# Altium schematic symbol library WR-TBL_Spring Clamp.SchLib: 367 symbols (part 4 of 6)
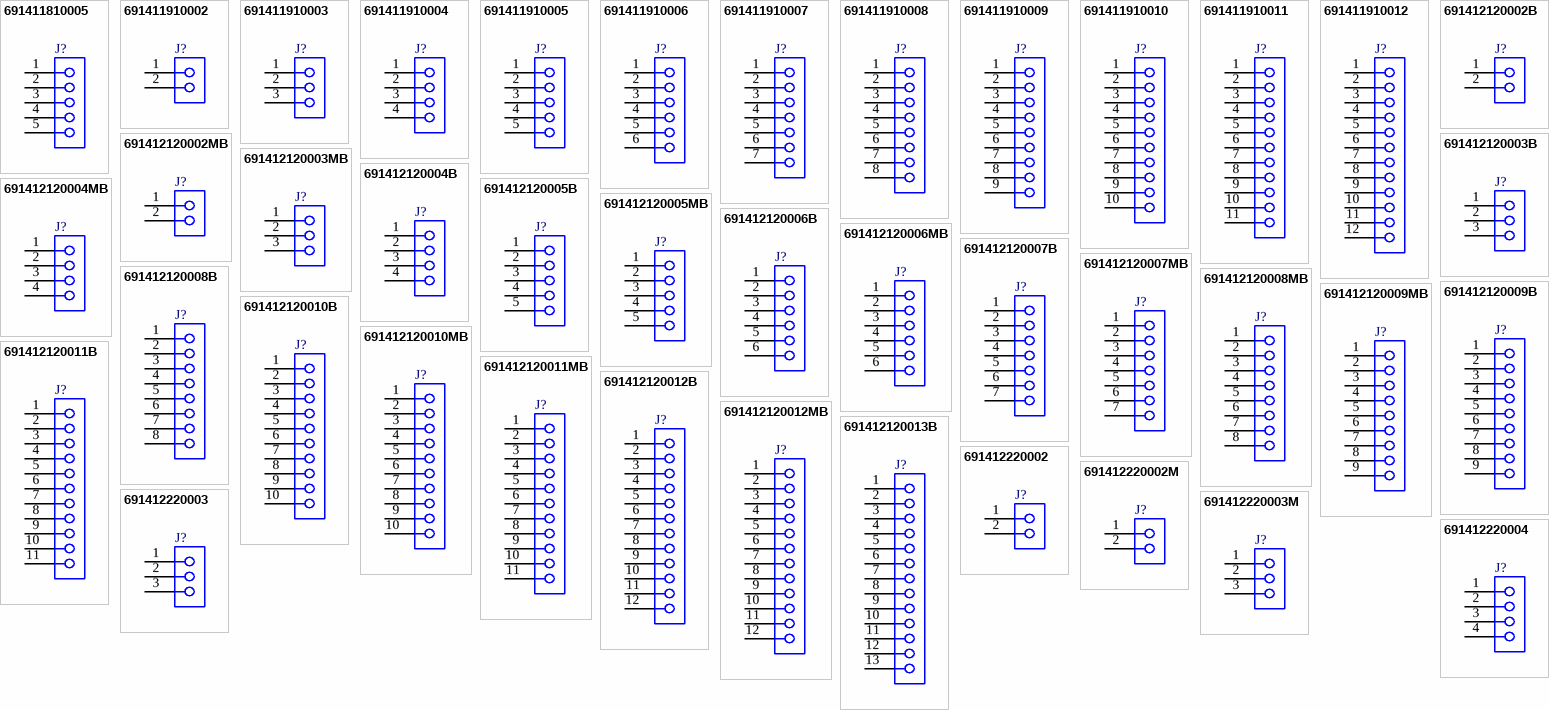
[diagram p12: symbols 691411810005 to 691412220004]

## 691412120008B
designator J?  (value not drawn)
WR-TBL Series 412B 45° Entry, THT, pitch 3.5mm, 08p; Manufacturer: Wurth Elektronik; Modularity: No; Rated Current: 6A; Wire Section: 14 to 20 (AWG) 2.08 to 0.518 (mm^2); Working Voltage: 300V (AC); Manufacturer Part Number: 691412120008B; Product Series: WR-TBL; ComponentLink1Description: Website Link; ComponentLink1URL: https://www.we-online.com; ComponentLink2Description: Datasheet Link; ComponentLink2URL: https://www.we-online.com/components/products/datasheet/691412120008B; Mount: Through Hole; Operating Temperature Min: -40degC; Operating Temperature Max: 105degC; Packaging: Box; Application: Screwless; Number of Pins: 8; Number of Rows: 1; Orientation: 45deg; Lead Pitch: 3.5mm
footprint 691412120008B
pins: 1, 2, 3, 4, 5, 6, 7, 8

## 691412120008MB
designator J?  (value not drawn)
WR-TBL Series 412MB 45° Entry, THT, pitch 3.5mm, 08p; Manufacturer: Wurth Elektronik; Modularity: No; Rated Current: 6A; Wire Section: 14 to 20 (AWG) 2.08 to 0.518 (mm^2); Working Voltage: 300V (AC); Manufacturer Part Number: 691412120008MB; Product Series: WR-TBL; ComponentLink1Description: Website Link; ComponentLink1URL: https://www.we-online.com; ComponentLink2Description: Datasheet Link; ComponentLink2URL: https://www.we-online.com/components/products/datasheet/691412120008MB; Mount: Through Hole; Operating Temperature Min: -40degC; Operating Temperature Max: 105degC; Packaging: Box; Application: Screwless; Number of Pins: 8; Number of Rows: 1; Orientation: 45deg; Lead Pitch: 3.5mm
footprint 691412120008MB
pins: 1, 2, 3, 4, 5, 6, 7, 8

## 691412120009B
designator J?  (value not drawn)
WR-TBL Series 412B 45° Entry, THT, pitch 3.5mm, 09p; Manufacturer: Wurth Elektronik; Modularity: No; Rated Current: 6A; Wire Section: 14 to 20 (AWG) 2.08 to 0.518 (mm^2); Working Voltage: 300V (AC); Manufacturer Part Number: 691412120009B; Product Series: WR-TBL; ComponentLink1Description: Website Link; ComponentLink1URL: https://www.we-online.com; ComponentLink2Description: Datasheet Link; ComponentLink2URL: https://www.we-online.com/components/products/datasheet/691412120009B; Mount: Through Hole; Operating Temperature Min: -40degC; Operating Temperature Max: 105degC; Packaging: Box; Application: Screwless; Number of Pins: 9; Number of Rows: 1; Orientation: 45deg; Lead Pitch: 3.5mm
footprint 691412120009B
pins: 1, 2, 3, 4, 5, 6, 7, 8, 9

## 691412120009MB
designator J?  (value not drawn)
WR-TBL Series 412MB 45° Entry, THT, pitch 3.5mm, 09p; Manufacturer: Wurth Elektronik; Modularity: No; Rated Current: 6A; Wire Section: 14 to 20 (AWG) 2.08 to 0.518 (mm^2); Working Voltage: 300V (AC); Manufacturer Part Number: 691412120009MB; Product Series: WR-TBL; ComponentLink1Description: Website Link; ComponentLink1URL: https://www.we-online.com; ComponentLink2Description: Datasheet Link; ComponentLink2URL: https://www.we-online.com/components/products/datasheet/691412120009MB; Mount: Through Hole; Operating Temperature Min: -40degC; Operating Temperature Max: 105degC; Packaging: Box; Application: Screwless; Number of Pins: 9; Number of Rows: 1; Orientation: 45deg; Lead Pitch: 3.5mm
footprint 691412120009MB
pins: 1, 2, 3, 4, 5, 6, 7, 8, 9

## 691412120010B
designator J?  (value not drawn)
WR-TBL Series 412B 45° Entry, THT, pitch 3.5mm, 10p; Manufacturer: Wurth Elektronik; Modularity: No; Rated Current: 6A; Wire Section: 14 to 20 (AWG) 2.08 to 0.518 (mm^2); Working Voltage: 300V (AC); Manufacturer Part Number: 691412120010B; Product Series: WR-TBL; ComponentLink1Description: Website Link; ComponentLink1URL: https://www.we-online.com; ComponentLink2Description: Datasheet Link; ComponentLink2URL: https://www.we-online.com/components/products/datasheet/691412120010B; Mount: Through Hole; Operating Temperature Min: -40degC; Operating Temperature Max: 105degC; Packaging: Box; Application: Screwless; Number of Pins: 10; Number of Rows: 1; Orientation: 45deg; Lead Pitch: 3.5mm
footprint 691412120010B
pins: 1, 2, 3, 4, 5, 6, 7, 8, 9, 10

## 691412120010MB
designator J?  (value not drawn)
WR-TBL Series 412MB 45° Entry, THT, pitch 3.5mm, 10p; Manufacturer: Wurth Elektronik; Modularity: No; Rated Current: 6A; Wire Section: 14 to 20 (AWG) 2.08 to 0.518 (mm^2); Working Voltage: 300V (AC); Manufacturer Part Number: 691412120010MB; Product Series: WR-TBL; ComponentLink1Description: Website Link; ComponentLink1URL: https://www.we-online.com; ComponentLink2Description: Datasheet Link; ComponentLink2URL: https://www.we-online.com/components/products/datasheet/691412120010MB; Mount: Through Hole; Operating Temperature Min: -40degC; Operating Temperature Max: 105degC; Packaging: Box; Application: Screwless; Number of Pins: 10; Number of Rows: 1; Orientation: 45deg; Lead Pitch: 3.5mm
footprint 691412120010MB
pins: 1, 2, 3, 4, 5, 6, 7, 8, 9, 10

## 691412120011B
designator J?  (value not drawn)
WR-TBL Series 412B 45° Entry, THT, pitch 3.5mm, 11p; Manufacturer: Wurth Elektronik; Modularity: No; Rated Current: 6A; Wire Section: 14 to 20 (AWG) 2.08 to 0.518 (mm^2); Working Voltage: 300V (AC); Manufacturer Part Number: 691412120011B; Product Series: WR-TBL; ComponentLink1Description: Website Link; ComponentLink1URL: https://www.we-online.com; ComponentLink2Description: Datasheet Link; ComponentLink2URL: https://www.we-online.com/components/products/datasheet/691412120011B; Mount: Through Hole; Operating Temperature Min: -40degC; Operating Temperature Max: 105degC; Packaging: Box; Application: Screwless; Number of Pins: 11; Number of Rows: 1; Orientation: 45deg; Lead Pitch: 3.5mm
footprint 691412120011B
pins: 1, 2, 3, 4, 5, 6, 7, 8, 9, 10, 11

## 691412120011MB
designator J?  (value not drawn)
WR-TBL Series 412MB 45° Entry, THT, pitch 3.5mm, 11p; Manufacturer: Wurth Elektronik; Modularity: No; Rated Current: 6A; Wire Section: 14 to 20 (AWG) 2.08 to 0.518 (mm^2); Working Voltage: 300V (AC); Manufacturer Part Number: 691412120011MB; Product Series: WR-TBL; ComponentLink1Description: Website Link; ComponentLink1URL: https://www.we-online.com; ComponentLink2Description: Datasheet Link; ComponentLink2URL: https://www.we-online.com/components/products/datasheet/691412120011MB; Mount: Through Hole; Operating Temperature Min: -40degC; Operating Temperature Max: 105degC; Packaging: Box; Application: Screwless; Number of Pins: 11; Number of Rows: 1; Orientation: 45deg; Lead Pitch: 3.5mm
footprint 691412120011MB
pins: 1, 2, 3, 4, 5, 6, 7, 8, 9, 10, 11

## 691412120012B
designator J?  (value not drawn)
WR-TBL Series 412B 45° Entry, THT, pitch 3.5mm, 12p; Manufacturer: Wurth Elektronik; Modularity: No; Rated Current: 6A; Wire Section: 14 to 20 (AWG) 2.08 to 0.518 (mm^2); Working Voltage: 300V (AC); Manufacturer Part Number: 691412120012B; Product Series: WR-TBL; ComponentLink1Description: Website Link; ComponentLink1URL: https://www.we-online.com; ComponentLink2Description: Datasheet Link; ComponentLink2URL: https://www.we-online.com/components/products/datasheet/691412120012B; Mount: Through Hole; Operating Temperature Min: -40degC; Operating Temperature Max: 105degC; Packaging: Box; Application: Screwless; Number of Pins: 12; Number of Rows: 1; Orientation: 45deg; Lead Pitch: 3.5mm
footprint 691412120012B
pins: 1, 2, 3, 4, 5, 6, 7, 8, 9, 10, 11, 12

## 691412120012MB
designator J?  (value not drawn)
WR-TBL Series 412MB 45° Entry, THT, pitch 3.5mm, 12p; Manufacturer: Wurth Elektronik; Modularity: No; Rated Current: 6A; Wire Section: 14 to 20 (AWG) 2.08 to 0.518 (mm^2); Working Voltage: 300V (AC); Manufacturer Part Number: 691412120012MB; Product Series: WR-TBL; ComponentLink1Description: Website Link; ComponentLink1URL: https://www.we-online.com; ComponentLink2Description: Datasheet Link; ComponentLink2URL: https://www.we-online.com/components/products/datasheet/691412120012MB; Mount: Through Hole; Operating Temperature Min: -40degC; Operating Temperature Max: 105degC; Packaging: Box; Application: Screwless; Number of Pins: 12; Number of Rows: 1; Orientation: 45deg; Lead Pitch: 3.5mm
footprint 691412120012MB
pins: 1, 2, 3, 4, 5, 6, 7, 8, 9, 10, 11, 12

## 691412120013B
designator J?  (value not drawn)
WR-TBL Series 412B 45° Entry, THT, pitch 3.5mm, 13p; Manufacturer: Wurth Elektronik; Modularity: No; Rated Current: 6A; Wire Section: 14 to 20 (AWG) 2.08 to 0.518 (mm^2); Working Voltage: 300V (AC); Manufacturer Part Number: 691412120013B; Product Series: WR-TBL; ComponentLink1Description: Website Link; ComponentLink1URL: https://www.we-online.com; ComponentLink2Description: Datasheet Link; ComponentLink2URL: https://www.we-online.com/components/products/datasheet/691412120013B; Mount: Through Hole; Operating Temperature Min: -40degC; Operating Temperature Max: 105degC; Packaging: Box; Application: Screwless; Number of Pins: 13; Number of Rows: 1; Orientation: 45deg; Lead Pitch: 3.5mm
footprint 691412120013B
pins: 1, 2, 3, 4, 5, 6, 7, 8, 9, 10, 11, 12, 13

## 691412220002
designator J?  (value not drawn)
WR-TBL Series 4122 45° Entry, THT, pitch 7mm, 02p; Manufacturer: Wurth Elektronik; Modularity: No; Rated Current: 4A; Wire Section: 16 to 30 (AWG) 1.31 to 0.05 (mm^2); Working Voltage: 300V (AC); Manufacturer Part Number: 691412220002; Product Series: WR-TBL; ComponentLink1Description: Website Link; ComponentLink1URL: https://www.we-online.com; ComponentLink2Description: Datasheet Link; ComponentLink2URL: https://www.we-online.com/components/products/datasheet/691412220002; Mount: Through Hole; Operating Temperature Min: -30degC; Operating Temperature Max: 120degC; Packaging: Box; Application: Screwless; Number of Pins: 2; Number of Rows: 1; Orientation: 45deg; Lead Pitch: 7mm
footprint 691412220002
pins: 1, 2

## 691412220002M
designator J?  (value not drawn)
WR-TBL Series 4122M 45° Entry, THT, pitch 7mm, 02p; Manufacturer: Wurth Elektronik; Modularity: No; Rated Current: 4A; Wire Section: 16 to 30 (AWG) 1.31 to 0.05 (mm^2); Working Voltage: 300V (AC); Manufacturer Part Number: 691412220002M; Product Series: WR-TBL; ComponentLink1Description: Website Link; ComponentLink1URL: https://www.we-online.com; ComponentLink2Description: Datasheet Link; ComponentLink2URL: https://www.we-online.com/components/products/datasheet/691412220002M; Mount: Through Hole; Operating Temperature Min: -30degC; Operating Temperature Max: 120degC; Packaging: Box; Application: Screwless; Number of Pins: 2; Number of Rows: 1; Orientation: 45deg; Lead Pitch: 7mm
footprint 691412220002M
pins: 1, 2

## 691412220003
designator J?  (value not drawn)
WR-TBL Series 4122 45° Entry, THT, pitch 7mm, 03p; Manufacturer: Wurth Elektronik; Modularity: No; Rated Current: 4A; Wire Section: 16 to 30 (AWG) 1.31 to 0.05 (mm^2); Working Voltage: 300V (AC); Manufacturer Part Number: 691412220003; Product Series: WR-TBL; ComponentLink1Description: Website Link; ComponentLink1URL: https://www.we-online.com; ComponentLink2Description: Datasheet Link; ComponentLink2URL: https://www.we-online.com/components/products/datasheet/691412220003; Mount: Through Hole; Operating Temperature Min: -30degC; Operating Temperature Max: 120degC; Packaging: Box; Application: Screwless; Number of Pins: 3; Number of Rows: 1; Orientation: 45deg; Lead Pitch: 7mm
footprint 691412220003
pins: 1, 2, 3

## 691412220003M
designator J?  (value not drawn)
WR-TBL Series 4122M 45° Entry, THT, pitch 7mm, 03p; Manufacturer: Wurth Elektronik; Modularity: No; Rated Current: 4A; Wire Section: 16 to 30 (AWG) 1.31 to 0.05 (mm^2); Working Voltage: 300V (AC); Manufacturer Part Number: 691412220003M; Product Series: WR-TBL; ComponentLink1Description: Website Link; ComponentLink1URL: https://www.we-online.com; ComponentLink2Description: Datasheet Link; ComponentLink2URL: https://www.we-online.com/components/products/datasheet/691412220003M; Mount: Through Hole; Operating Temperature Min: -30degC; Operating Temperature Max: 120degC; Packaging: Box; Application: Screwless; Number of Pins: 3; Number of Rows: 1; Orientation: 45deg; Lead Pitch: 7mm
footprint 691412220003M
pins: 1, 2, 3

## 691412220004
designator J?  (value not drawn)
WR-TBL Series 4122 45° Entry, THT, pitch 7mm, 04p; Manufacturer: Wurth Elektronik; Modularity: No; Rated Current: 4A; Wire Section: 16 to 30 (AWG) 1.31 to 0.05 (mm^2); Working Voltage: 300V (AC); Manufacturer Part Number: 691412220004; Product Series: WR-TBL; ComponentLink1Description: Website Link; ComponentLink1URL: https://www.we-online.com; ComponentLink2Description: Datasheet Link; ComponentLink2URL: https://www.we-online.com/components/products/datasheet/691412220004; Mount: Through Hole; Operating Temperature Min: -30degC; Operating Temperature Max: 120degC; Packaging: Box; Application: Screwless; Number of Pins: 4; Number of Rows: 1; Orientation: 45deg; Lead Pitch: 7mm
footprint 691412220004
pins: 1, 2, 3, 4

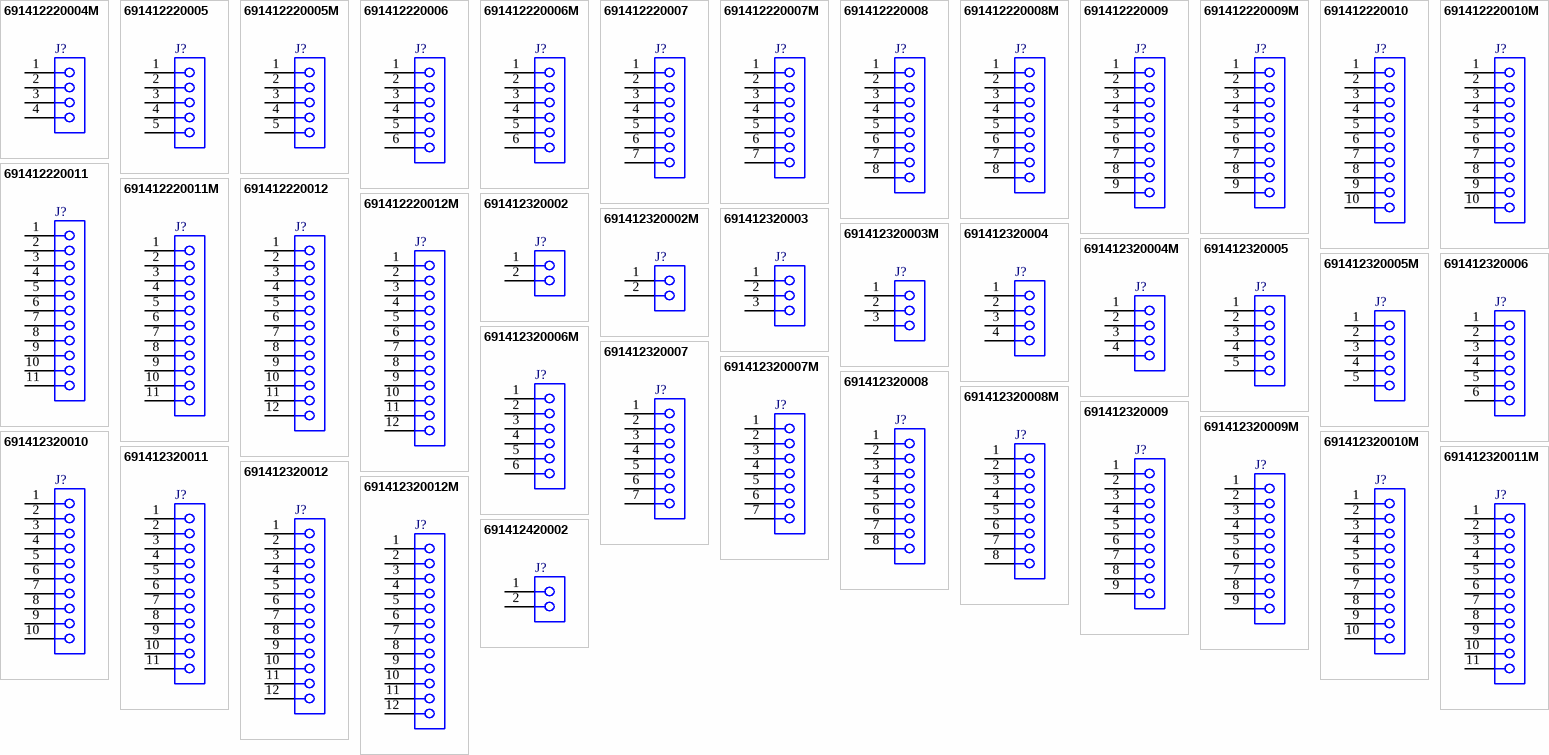
[diagram p5: symbols 691412220004M to 691412420002]

## 691412220004M
designator J?  (value not drawn)
WR-TBL Series 4122M 45° Entry, THT, pitch 7mm, 04p; Manufacturer: Wurth Elektronik; Modularity: No; Rated Current: 4A; Wire Section: 16 to 30 (AWG) 1.31 to 0.05 (mm^2); Working Voltage: 300V (AC); Manufacturer Part Number: 691412220004M; Product Series: WR-TBL; ComponentLink1Description: Website Link; ComponentLink1URL: https://www.we-online.com; ComponentLink2Description: Datasheet Link; ComponentLink2URL: https://www.we-online.com/components/products/datasheet/691412220004M; Mount: Through Hole; Operating Temperature Min: -30degC; Operating Temperature Max: 120degC; Packaging: Box; Application: Screwless; Number of Pins: 4; Number of Rows: 1; Orientation: 45deg; Lead Pitch: 7mm
footprint 691412220004M
pins: 1, 2, 3, 4

## 691412220005
designator J?  (value not drawn)
WR-TBL Series 4122 45° Entry, THT, pitch 7mm, 05p; Manufacturer: Wurth Elektronik; Modularity: No; Rated Current: 4A; Wire Section: 16 to 30 (AWG) 1.31 to 0.05 (mm^2); Working Voltage: 300V (AC); Manufacturer Part Number: 691412220005; Product Series: WR-TBL; ComponentLink1Description: Website Link; ComponentLink1URL: https://www.we-online.com; ComponentLink2Description: Datasheet Link; ComponentLink2URL: https://www.we-online.com/components/products/datasheet/691412220005; Mount: Through Hole; Operating Temperature Min: -30degC; Operating Temperature Max: 120degC; Packaging: Box; Application: Screwless; Number of Pins: 5; Number of Rows: 1; Orientation: 45deg; Lead Pitch: 7mm
footprint 691412220005
pins: 1, 2, 3, 4, 5

## 691412220005M
designator J?  (value not drawn)
WR-TBL Series 4122M 45° Entry, THT, pitch 7mm, 05p; Manufacturer: Wurth Elektronik; Modularity: No; Rated Current: 4A; Wire Section: 16 to 30 (AWG) 1.31 to 0.05 (mm^2); Working Voltage: 300V (AC); Manufacturer Part Number: 691412220005M; Product Series: WR-TBL; ComponentLink1Description: Website Link; ComponentLink1URL: https://www.we-online.com; ComponentLink2Description: Datasheet Link; ComponentLink2URL: https://www.we-online.com/components/products/datasheet/691412220005M; Mount: Through Hole; Operating Temperature Min: -30degC; Operating Temperature Max: 120degC; Packaging: Box; Application: Screwless; Number of Pins: 5; Number of Rows: 1; Orientation: 45deg; Lead Pitch: 7mm
footprint 691412220005M
pins: 1, 2, 3, 4, 5

## 691412220006
designator J?  (value not drawn)
WR-TBL Series 4122 45° Entry, THT, pitch 7mm, 06p; Manufacturer: Wurth Elektronik; Modularity: No; Rated Current: 4A; Wire Section: 16 to 30 (AWG) 1.31 to 0.05 (mm^2); Working Voltage: 300V (AC); Manufacturer Part Number: 691412220006; Product Series: WR-TBL; ComponentLink1Description: Website Link; ComponentLink1URL: https://www.we-online.com; ComponentLink2Description: Datasheet Link; ComponentLink2URL: https://www.we-online.com/components/products/datasheet/691412220006; Mount: Through Hole; Operating Temperature Min: -30degC; Operating Temperature Max: 120degC; Packaging: Box; Application: Screwless; Number of Pins: 6; Number of Rows: 1; Orientation: 45deg; Lead Pitch: 7mm
footprint 691412220006
pins: 1, 2, 3, 4, 5, 6

## 691412220006M
designator J?  (value not drawn)
WR-TBL Series 4122M 45° Entry, THT, pitch 7mm, 06p; Manufacturer: Wurth Elektronik; Modularity: No; Rated Current: 4A; Wire Section: 16 to 30 (AWG) 1.31 to 0.05 (mm^2); Working Voltage: 300V (AC); Manufacturer Part Number: 691412220006M; Product Series: WR-TBL; ComponentLink1Description: Website Link; ComponentLink1URL: https://www.we-online.com; ComponentLink2Description: Datasheet Link; ComponentLink2URL: https://www.we-online.com/components/products/datasheet/691412220006M; Mount: Through Hole; Operating Temperature Min: -30degC; Operating Temperature Max: 120degC; Packaging: Box; Application: Screwless; Number of Pins: 6; Number of Rows: 1; Orientation: 45deg; Lead Pitch: 7mm
footprint 691412220006M
pins: 1, 2, 3, 4, 5, 6

## 691412220007
designator J?  (value not drawn)
WR-TBL Series 4122 45° Entry, THT, pitch 7mm, 07p; Manufacturer: Wurth Elektronik; Modularity: No; Rated Current: 4A; Wire Section: 16 to 30 (AWG) 1.31 to 0.05 (mm^2); Working Voltage: 300V (AC); Manufacturer Part Number: 691412220007; Product Series: WR-TBL; ComponentLink1Description: Website Link; ComponentLink1URL: https://www.we-online.com; ComponentLink2Description: Datasheet Link; ComponentLink2URL: https://www.we-online.com/components/products/datasheet/691412220007; Mount: Through Hole; Operating Temperature Min: -30degC; Operating Temperature Max: 120degC; Packaging: Box; Application: Screwless; Number of Pins: 7; Number of Rows: 1; Orientation: 45deg; Lead Pitch: 7mm
footprint 691412220007
pins: 1, 2, 3, 4, 5, 6, 7

## 691412220007M
designator J?  (value not drawn)
WR-TBL Series 4122M 45° Entry, THT, pitch 7mm, 07p; Manufacturer: Wurth Elektronik; Modularity: No; Rated Current: 4A; Wire Section: 16 to 30 (AWG) 1.31 to 0.05 (mm^2); Working Voltage: 300V (AC); Manufacturer Part Number: 691412220007M; Product Series: WR-TBL; ComponentLink1Description: Website Link; ComponentLink1URL: https://www.we-online.com; ComponentLink2Description: Datasheet Link; ComponentLink2URL: https://www.we-online.com/components/products/datasheet/691412220007M; Mount: Through Hole; Operating Temperature Min: -30degC; Operating Temperature Max: 120degC; Packaging: Box; Application: Screwless; Number of Pins: 7; Number of Rows: 1; Orientation: 45deg; Lead Pitch: 7mm
footprint 691412220007M
pins: 1, 2, 3, 4, 5, 6, 7

## 691412220008
designator J?  (value not drawn)
WR-TBL Series 4122 45° Entry, THT, pitch 7mm, 08p; Manufacturer: Wurth Elektronik; Modularity: No; Rated Current: 4A; Wire Section: 16 to 30 (AWG) 1.31 to 0.05 (mm^2); Working Voltage: 300V (AC); Manufacturer Part Number: 691412220008; Product Series: WR-TBL; ComponentLink1Description: Website Link; ComponentLink1URL: https://www.we-online.com; ComponentLink2Description: Datasheet Link; ComponentLink2URL: https://www.we-online.com/components/products/datasheet/691412220008; Mount: Through Hole; Operating Temperature Min: -30degC; Operating Temperature Max: 120degC; Packaging: Box; Application: Screwless; Number of Pins: 8; Number of Rows: 1; Orientation: 45deg; Lead Pitch: 7mm
footprint 691412220008
pins: 1, 2, 3, 4, 5, 6, 7, 8

## 691412220008M
designator J?  (value not drawn)
WR-TBL Series 4122M 45° Entry, THT, pitch 7mm, 08p; Manufacturer: Wurth Elektronik; Modularity: No; Rated Current: 4A; Wire Section: 16 to 30 (AWG) 1.31 to 0.05 (mm^2); Working Voltage: 300V (AC); Manufacturer Part Number: 691412220008M; Product Series: WR-TBL; ComponentLink1Description: Website Link; ComponentLink1URL: https://www.we-online.com; ComponentLink2Description: Datasheet Link; ComponentLink2URL: https://www.we-online.com/components/products/datasheet/691412220008M; Mount: Through Hole; Operating Temperature Min: -30degC; Operating Temperature Max: 120degC; Packaging: Box; Application: Screwless; Number of Pins: 8; Number of Rows: 1; Orientation: 45deg; Lead Pitch: 7mm
footprint 691412220008M
pins: 1, 2, 3, 4, 5, 6, 7, 8

## 691412220009
designator J?  (value not drawn)
WR-TBL Series 4122 45° Entry, THT, pitch 7mm, 09p; Manufacturer: Wurth Elektronik; Modularity: No; Rated Current: 4A; Wire Section: 16 to 30 (AWG) 1.31 to 0.05 (mm^2); Working Voltage: 300V (AC); Manufacturer Part Number: 691412220009; Product Series: WR-TBL; ComponentLink1Description: Website Link; ComponentLink1URL: https://www.we-online.com; ComponentLink2Description: Datasheet Link; ComponentLink2URL: https://www.we-online.com/components/products/datasheet/691412220009; Mount: Through Hole; Operating Temperature Min: -30degC; Operating Temperature Max: 120degC; Packaging: Box; Application: Screwless; Number of Pins: 9; Number of Rows: 1; Orientation: 45deg; Lead Pitch: 7mm
footprint 691412220009
pins: 1, 2, 3, 4, 5, 6, 7, 8, 9

## 691412220009M
designator J?  (value not drawn)
WR-TBL Series 4122M 45° Entry, THT, pitch 7mm, 09p; Manufacturer: Wurth Elektronik; Modularity: No; Rated Current: 4A; Wire Section: 16 to 30 (AWG) 1.31 to 0.05 (mm^2); Working Voltage: 300V (AC); Manufacturer Part Number: 691412220009M; Product Series: WR-TBL; ComponentLink1Description: Website Link; ComponentLink1URL: https://www.we-online.com; ComponentLink2Description: Datasheet Link; ComponentLink2URL: https://www.we-online.com/components/products/datasheet/691412220009M; Mount: Through Hole; Operating Temperature Min: -30degC; Operating Temperature Max: 120degC; Packaging: Box; Application: Screwless; Number of Pins: 9; Number of Rows: 1; Orientation: 45deg; Lead Pitch: 7mm
footprint 691412220009M
pins: 1, 2, 3, 4, 5, 6, 7, 8, 9

## 691412220010
designator J?  (value not drawn)
WR-TBL Series 4122 45° Entry, THT, pitch 7mm, 10p; Manufacturer: Wurth Elektronik; Modularity: No; Rated Current: 4A; Wire Section: 16 to 30 (AWG) 1.31 to 0.05 (mm^2); Working Voltage: 300V (AC); Manufacturer Part Number: 691412220010; Product Series: WR-TBL; ComponentLink1Description: Website Link; ComponentLink1URL: https://www.we-online.com; ComponentLink2Description: Datasheet Link; ComponentLink2URL: https://www.we-online.com/components/products/datasheet/691412220010; Mount: Through Hole; Operating Temperature Min: -30degC; Operating Temperature Max: 120degC; Packaging: Box; Application: Screwless; Number of Pins: 10; Number of Rows: 1; Orientation: 45deg; Lead Pitch: 7mm
footprint 691412220010
pins: 1, 2, 3, 4, 5, 6, 7, 8, 9, 10

## 691412220010M
designator J?  (value not drawn)
WR-TBL Series 4122M 45° Entry, THT, pitch 7mm, 10p; Manufacturer: Wurth Elektronik; Modularity: No; Rated Current: 4A; Wire Section: 16 to 30 (AWG) 1.31 to 0.05 (mm^2); Working Voltage: 300V (AC); Manufacturer Part Number: 691412220010M; Product Series: WR-TBL; ComponentLink1Description: Website Link; ComponentLink1URL: https://www.we-online.com; ComponentLink2Description: Datasheet Link; ComponentLink2URL: https://www.we-online.com/components/products/datasheet/691412220010M; Mount: Through Hole; Operating Temperature Min: -30degC; Operating Temperature Max: 120degC; Packaging: Box; Application: Screwless; Number of Pins: 10; Number of Rows: 1; Orientation: 45deg; Lead Pitch: 7mm
footprint 691412220010M
pins: 1, 2, 3, 4, 5, 6, 7, 8, 9, 10

## 691412220011
designator J?  (value not drawn)
WR-TBL Series 4122 45° Entry, THT, pitch 7mm, 11p; Manufacturer: Wurth Elektronik; Modularity: No; Rated Current: 4A; Wire Section: 16 to 30 (AWG) 1.31 to 0.05 (mm^2); Working Voltage: 300V (AC); Manufacturer Part Number: 691412220011; Product Series: WR-TBL; ComponentLink1Description: Website Link; ComponentLink1URL: https://www.we-online.com; ComponentLink2Description: Datasheet Link; ComponentLink2URL: https://www.we-online.com/components/products/datasheet/691412220011; Mount: Through Hole; Operating Temperature Min: -30degC; Operating Temperature Max: 120degC; Packaging: Box; Application: Screwless; Number of Pins: 11; Number of Rows: 1; Orientation: 45deg; Lead Pitch: 7mm
footprint 691412220011
pins: 1, 2, 3, 4, 5, 6, 7, 8, 9, 10, 11

## 691412220011M
designator J?  (value not drawn)
WR-TBL Series 4122M 45° Entry, THT, pitch 7mm, 11p; Manufacturer: Wurth Elektronik; Modularity: No; Rated Current: 4A; Wire Section: 16 to 30 (AWG) 1.31 to 0.05 (mm^2); Working Voltage: 300V (AC); Manufacturer Part Number: 691412220011M; Product Series: WR-TBL; ComponentLink1Description: Website Link; ComponentLink1URL: https://www.we-online.com; ComponentLink2Description: Datasheet Link; ComponentLink2URL: https://www.we-online.com/components/products/datasheet/691412220011M; Mount: Through Hole; Operating Temperature Min: -30degC; Operating Temperature Max: 120degC; Packaging: Box; Application: Screwless; Number of Pins: 11; Number of Rows: 1; Orientation: 45deg; Lead Pitch: 7mm
footprint 691412220011M
pins: 1, 2, 3, 4, 5, 6, 7, 8, 9, 10, 11

## 691412220012
designator J?  (value not drawn)
WR-TBL Series 4122 45° Entry, THT, pitch 7mm, 12p; Manufacturer: Wurth Elektronik; Modularity: No; Rated Current: 4A; Wire Section: 16 to 30 (AWG) 1.31 to 0.05 (mm^2); Working Voltage: 300V (AC); Manufacturer Part Number: 691412220012; Product Series: WR-TBL; ComponentLink1Description: Website Link; ComponentLink1URL: https://www.we-online.com; ComponentLink2Description: Datasheet Link; ComponentLink2URL: https://www.we-online.com/components/products/datasheet/691412220012; Mount: Through Hole; Operating Temperature Min: -30degC; Operating Temperature Max: 120degC; Packaging: Box; Application: Screwless; Number of Pins: 12; Number of Rows: 1; Orientation: 45deg; Lead Pitch: 7mm
footprint 691412220012
pins: 1, 2, 3, 4, 5, 6, 7, 8, 9, 10, 11, 12

## 691412220012M
designator J?  (value not drawn)
WR-TBL Series 4122M 45° Entry, THT, pitch 7mm, 12p; Manufacturer: Wurth Elektronik; Modularity: No; Rated Current: 4A; Wire Section: 16 to 30 (AWG) 1.31 to 0.05 (mm^2); Working Voltage: 300V (AC); Manufacturer Part Number: 691412220012M; Product Series: WR-TBL; ComponentLink1Description: Website Link; ComponentLink1URL: https://www.we-online.com; ComponentLink2Description: Datasheet Link; ComponentLink2URL: https://www.we-online.com/components/products/datasheet/691412220012M; Mount: Through Hole; Operating Temperature Min: -30degC; Operating Temperature Max: 120degC; Packaging: Box; Application: Screwless; Number of Pins: 12; Number of Rows: 1; Orientation: 45deg; Lead Pitch: 7mm
footprint 691412220012M
pins: 1, 2, 3, 4, 5, 6, 7, 8, 9, 10, 11, 12

## 691412320002
designator J?  (value not drawn)
WR-TBL Series 4123 45° Entry, THT, pitch 3.81mm, 02p; Manufacturer: Wurth Elektronik; Modularity: No; Rated Current: 4A; Wire Section: 16 to 30 (AWG) 1.31 to 0.05 (mm^2); Working Voltage: 300V (AC); Manufacturer Part Number: 691412320002; Product Series: WR-TBL; ComponentLink1Description: Website Link; ComponentLink1URL: https://www.we-online.com; ComponentLink2Description: Datasheet Link; ComponentLink2URL: https://www.we-online.com/components/products/datasheet/691412320002; Mount: Through Hole; Operating Temperature Min: -30degC; Operating Temperature Max: 120degC; Packaging: Box; Application: Screwless; Number of Pins: 2; Number of Rows: 1; Orientation: 45deg; Lead Pitch: 3.81mm
footprint 691412320002
pins: 1, 2

## 691412320002M
designator J?  (value not drawn)
WR-TBL Series 4123M 45° Entry, THT, pitch 3.81mm, 02p; Manufacturer: Wurth Elektronik; Modularity: No; Rated Current: 4A; Wire Section: 16 to 30 (AWG) 1.31 to 0.05 (mm^2); Working Voltage: 300V (AC); Manufacturer Part Number: 691412320002M; Product Series: WR-TBL; ComponentLink1Description: Website Link; ComponentLink1URL: https://www.we-online.com; ComponentLink2Description: Datasheet Link; ComponentLink2URL: https://www.we-online.com/components/products/datasheet/691412320002M; Mount: Through Hole; Operating Temperature Min: -30degC; Operating Temperature Max: 120degC; Packaging: Box; Application: Screwless; Number of Pins: 2; Number of Rows: 1; Orientation: 45deg; Lead Pitch: 3.81mm
footprint 691412320002M
pins: 1, 2

## 691412320003
designator J?  (value not drawn)
WR-TBL Series 4123 45° Entry, THT, pitch 3.81mm, 03p; Manufacturer: Wurth Elektronik; Modularity: No; Rated Current: 4A; Wire Section: 16 to 30 (AWG) 1.31 to 0.05 (mm^2); Working Voltage: 300V (AC); Manufacturer Part Number: 691412320003; Product Series: WR-TBL; ComponentLink1Description: Website Link; ComponentLink1URL: https://www.we-online.com; ComponentLink2Description: Datasheet Link; ComponentLink2URL: https://www.we-online.com/components/products/datasheet/691412320003; Mount: Through Hole; Operating Temperature Min: -30degC; Operating Temperature Max: 120degC; Packaging: Box; Application: Screwless; Number of Pins: 3; Number of Rows: 1; Orientation: 45deg; Lead Pitch: 3.81mm
footprint 691412320003
pins: 1, 2, 3

## 691412320003M
designator J?  (value not drawn)
WR-TBL Series 4123M 45° Entry, THT, pitch 3.81mm, 03p; Manufacturer: Wurth Elektronik; Modularity: No; Rated Current: 4A; Wire Section: 16 to 30 (AWG) 1.31 to 0.05 (mm^2); Working Voltage: 300V (AC); Manufacturer Part Number: 691412320003M; Product Series: WR-TBL; ComponentLink1Description: Website Link; ComponentLink1URL: https://www.we-online.com; ComponentLink2Description: Datasheet Link; ComponentLink2URL: https://www.we-online.com/components/products/datasheet/691412320003M; Mount: Through Hole; Operating Temperature Min: -30degC; Operating Temperature Max: 120degC; Packaging: Box; Application: Screwless; Number of Pins: 3; Number of Rows: 1; Orientation: 45deg; Lead Pitch: 3.81mm
footprint 691412320003M
pins: 1, 2, 3

## 691412320004
designator J?  (value not drawn)
WR-TBL Series 4123 45° Entry, THT, pitch 3.81mm, 04p; Manufacturer: Wurth Elektronik; Modularity: No; Rated Current: 4A; Wire Section: 16 to 30 (AWG) 1.31 to 0.05 (mm^2); Working Voltage: 300V (AC); Manufacturer Part Number: 691412320004; Product Series: WR-TBL; ComponentLink1Description: Website Link; ComponentLink1URL: https://www.we-online.com; ComponentLink2Description: Datasheet Link; ComponentLink2URL: https://www.we-online.com/components/products/datasheet/691412320004; Mount: Through Hole; Operating Temperature Min: -30degC; Operating Temperature Max: 120degC; Packaging: Box; Application: Screwless; Number of Pins: 4; Number of Rows: 1; Orientation: 45deg; Lead Pitch: 3.81mm
footprint 691412320004
pins: 1, 2, 3, 4

## 691412320004M
designator J?  (value not drawn)
WR-TBL Series 4123M 45° Entry, THT, pitch 3.81mm, 04p; Manufacturer: Wurth Elektronik; Modularity: No; Rated Current: 4A; Wire Section: 16 to 30 (AWG) 1.31 to 0.05 (mm^2); Working Voltage: 300V (AC); Manufacturer Part Number: 691412320004M; Product Series: WR-TBL; ComponentLink1Description: Website Link; ComponentLink1URL: https://www.we-online.com; ComponentLink2Description: Datasheet Link; ComponentLink2URL: https://www.we-online.com/components/products/datasheet/691412320004M; Mount: Through Hole; Operating Temperature Min: -30degC; Operating Temperature Max: 120degC; Packaging: Box; Application: Screwless; Number of Pins: 4; Number of Rows: 1; Orientation: 45deg; Lead Pitch: 3.81mm
footprint 691412320004M
pins: 1, 2, 3, 4

## 691412320005
designator J?  (value not drawn)
WR-TBL Series 4123 45° Entry, THT, pitch 3.81mm, 05p; Manufacturer: Wurth Elektronik; Modularity: No; Rated Current: 4A; Wire Section: 16 to 30 (AWG) 1.31 to 0.05 (mm^2); Working Voltage: 300V (AC); Manufacturer Part Number: 691412320005; Product Series: WR-TBL; ComponentLink1Description: Website Link; ComponentLink1URL: https://www.we-online.com; ComponentLink2Description: Datasheet Link; ComponentLink2URL: https://www.we-online.com/components/products/datasheet/691412320005; Mount: Through Hole; Operating Temperature Min: -30degC; Operating Temperature Max: 120degC; Packaging: Box; Application: Screwless; Number of Pins: 5; Number of Rows: 1; Orientation: 45deg; Lead Pitch: 3.81mm
footprint 691412320005
pins: 1, 2, 3, 4, 5

## 691412320005M
designator J?  (value not drawn)
WR-TBL Series 4123M 45° Entry, THT, pitch 3.81mm, 05p; Manufacturer: Wurth Elektronik; Modularity: No; Rated Current: 4A; Wire Section: 16 to 30 (AWG) 1.31 to 0.05 (mm^2); Working Voltage: 300V (AC); Manufacturer Part Number: 691412320005M; Product Series: WR-TBL; ComponentLink1Description: Website Link; ComponentLink1URL: https://www.we-online.com; ComponentLink2Description: Datasheet Link; ComponentLink2URL: https://www.we-online.com/components/products/datasheet/691412320005M; Mount: Through Hole; Operating Temperature Min: -30degC; Operating Temperature Max: 120degC; Packaging: Box; Application: Screwless; Number of Pins: 5; Number of Rows: 1; Orientation: 45deg; Lead Pitch: 3.81mm
footprint 691412320005M
pins: 1, 2, 3, 4, 5

## 691412320006
designator J?  (value not drawn)
WR-TBL Series 4123 45° Entry, THT, pitch 3.81mm, 06p; Manufacturer: Wurth Elektronik; Modularity: No; Rated Current: 4A; Wire Section: 16 to 30 (AWG) 1.31 to 0.05 (mm^2); Working Voltage: 300V (AC); Manufacturer Part Number: 691412320006; Product Series: WR-TBL; ComponentLink1Description: Website Link; ComponentLink1URL: https://www.we-online.com; ComponentLink2Description: Datasheet Link; ComponentLink2URL: https://www.we-online.com/components/products/datasheet/691412320006; Mount: Through Hole; Operating Temperature Min: -30degC; Operating Temperature Max: 120degC; Packaging: Box; Application: Screwless; Number of Pins: 6; Number of Rows: 1; Orientation: 45deg; Lead Pitch: 3.81mm
footprint 691412320006
pins: 1, 2, 3, 4, 5, 6

## 691412320006M
designator J?  (value not drawn)
WR-TBL Series 4123M 45° Entry, THT, pitch 3.81mm, 06p; Manufacturer: Wurth Elektronik; Modularity: No; Rated Current: 4A; Wire Section: 16 to 30 (AWG) 1.31 to 0.05 (mm^2); Working Voltage: 300V (AC); Manufacturer Part Number: 691412320006M; Product Series: WR-TBL; ComponentLink1Description: Website Link; ComponentLink1URL: https://www.we-online.com; ComponentLink2Description: Datasheet Link; ComponentLink2URL: https://www.we-online.com/components/products/datasheet/691412320006M; Mount: Through Hole; Operating Temperature Min: -30degC; Operating Temperature Max: 120degC; Packaging: Box; Application: Screwless; Number of Pins: 6; Number of Rows: 1; Orientation: 45deg; Lead Pitch: 3.81mm
footprint 691412320006M
pins: 1, 2, 3, 4, 5, 6

## 691412320007
designator J?  (value not drawn)
WR-TBL Series 4123 45° Entry, THT, pitch 3.81mm, 07p; Manufacturer: Wurth Elektronik; Modularity: No; Rated Current: 4A; Wire Section: 16 to 30 (AWG) 1.31 to 0.05 (mm^2); Working Voltage: 300V (AC); Manufacturer Part Number: 691412320007; Product Series: WR-TBL; ComponentLink1Description: Website Link; ComponentLink1URL: https://www.we-online.com; ComponentLink2Description: Datasheet Link; ComponentLink2URL: https://www.we-online.com/components/products/datasheet/691412320007; Mount: Through Hole; Operating Temperature Min: -30degC; Operating Temperature Max: 120degC; Packaging: Box; Application: Screwless; Number of Pins: 7; Number of Rows: 1; Orientation: 45deg; Lead Pitch: 3.81mm
footprint 691412320007
pins: 1, 2, 3, 4, 5, 6, 7

## 691412320007M
designator J?  (value not drawn)
WR-TBL Series 4123M 45° Entry, THT, pitch 3.81mm, 07p; Manufacturer: Wurth Elektronik; Modularity: No; Rated Current: 4A; Wire Section: 16 to 30 (AWG) 1.31 to 0.05 (mm^2); Working Voltage: 300V (AC); Manufacturer Part Number: 691412320007M; Product Series: WR-TBL; ComponentLink1Description: Website Link; ComponentLink1URL: https://www.we-online.com; ComponentLink2Description: Datasheet Link; ComponentLink2URL: https://www.we-online.com/components/products/datasheet/691412320007M; Mount: Through Hole; Operating Temperature Min: -30degC; Operating Temperature Max: 120degC; Packaging: Box; Application: Screwless; Number of Pins: 7; Number of Rows: 1; Orientation: 45deg; Lead Pitch: 3.81mm
footprint 691412320007M
pins: 1, 2, 3, 4, 5, 6, 7

## 691412320008
designator J?  (value not drawn)
WR-TBL Series 4123 45° Entry, THT, pitch 3.81mm, 08p; Manufacturer: Wurth Elektronik; Modularity: No; Rated Current: 4A; Wire Section: 16 to 30 (AWG) 1.31 to 0.05 (mm^2); Working Voltage: 300V (AC); Manufacturer Part Number: 691412320008; Product Series: WR-TBL; ComponentLink1Description: Website Link; ComponentLink1URL: https://www.we-online.com; ComponentLink2Description: Datasheet Link; ComponentLink2URL: https://www.we-online.com/components/products/datasheet/691412320008; Mount: Through Hole; Operating Temperature Min: -30degC; Operating Temperature Max: 120degC; Packaging: Box; Application: Screwless; Number of Pins: 8; Number of Rows: 1; Orientation: 45deg; Lead Pitch: 3.81mm
footprint 691412320008
pins: 1, 2, 3, 4, 5, 6, 7, 8

## 691412320008M
designator J?  (value not drawn)
WR-TBL Series 4123M 45° Entry, THT, pitch 3.81mm, 08p; Manufacturer: Wurth Elektronik; Modularity: No; Rated Current: 4A; Wire Section: 16 to 30 (AWG) 1.31 to 0.05 (mm^2); Working Voltage: 300V (AC); Manufacturer Part Number: 691412320008M; Product Series: WR-TBL; ComponentLink1Description: Website Link; ComponentLink1URL: https://www.we-online.com; ComponentLink2Description: Datasheet Link; ComponentLink2URL: https://www.we-online.com/components/products/datasheet/691412320008M; Mount: Through Hole; Operating Temperature Min: -30degC; Operating Temperature Max: 120degC; Packaging: Box; Application: Screwless; Number of Pins: 8; Number of Rows: 1; Orientation: 45deg; Lead Pitch: 3.81mm
footprint 691412320008M
pins: 1, 2, 3, 4, 5, 6, 7, 8

## 691412320009
designator J?  (value not drawn)
WR-TBL Series 4123 45° Entry, THT, pitch 3.81mm, 09p; Manufacturer: Wurth Elektronik; Modularity: No; Rated Current: 4A; Wire Section: 16 to 30 (AWG) 1.31 to 0.05 (mm^2); Working Voltage: 300V (AC); Manufacturer Part Number: 691412320009; Product Series: WR-TBL; ComponentLink1Description: Website Link; ComponentLink1URL: https://www.we-online.com; ComponentLink2Description: Datasheet Link; ComponentLink2URL: https://www.we-online.com/components/products/datasheet/691412320009; Mount: Through Hole; Operating Temperature Min: -30degC; Operating Temperature Max: 120degC; Packaging: Box; Application: Screwless; Number of Pins: 9; Number of Rows: 1; Orientation: 45deg; Lead Pitch: 3.81mm
footprint 691412320009
pins: 1, 2, 3, 4, 5, 6, 7, 8, 9

## 691412320009M
designator J?  (value not drawn)
WR-TBL Series 4123M 45° Entry, THT, pitch 3.81mm, 09p; Manufacturer: Wurth Elektronik; Modularity: No; Rated Current: 4A; Wire Section: 16 to 30 (AWG) 1.31 to 0.05 (mm^2); Working Voltage: 300V (AC); Manufacturer Part Number: 691412320009M; Product Series: WR-TBL; ComponentLink1Description: Website Link; ComponentLink1URL: https://www.we-online.com; ComponentLink2Description: Datasheet Link; ComponentLink2URL: https://www.we-online.com/components/products/datasheet/691412320009M; Mount: Through Hole; Operating Temperature Min: -30degC; Operating Temperature Max: 120degC; Packaging: Box; Application: Screwless; Number of Pins: 9; Number of Rows: 1; Orientation: 45deg; Lead Pitch: 3.81mm
footprint 691412320009M
pins: 1, 2, 3, 4, 5, 6, 7, 8, 9

## 691412320010
designator J?  (value not drawn)
WR-TBL Series 4123 45° Entry, THT, pitch 3.81mm, 10p; Manufacturer: Wurth Elektronik; Modularity: No; Rated Current: 4A; Wire Section: 16 to 30 (AWG) 1.31 to 0.05 (mm^2); Working Voltage: 300V (AC); Manufacturer Part Number: 691412320010; Product Series: WR-TBL; ComponentLink1Description: Website Link; ComponentLink1URL: https://www.we-online.com; ComponentLink2Description: Datasheet Link; ComponentLink2URL: https://www.we-online.com/components/products/datasheet/691412320010; Mount: Through Hole; Operating Temperature Min: -30degC; Operating Temperature Max: 120degC; Packaging: Box; Application: Screwless; Number of Pins: 10; Number of Rows: 1; Orientation: 45deg; Lead Pitch: 3.81mm
footprint 691412320010
pins: 1, 2, 3, 4, 5, 6, 7, 8, 9, 10

## 691412320010M
designator J?  (value not drawn)
WR-TBL Series 4123M 45° Entry, THT, pitch 3.81mm, 10p; Manufacturer: Wurth Elektronik; Modularity: No; Rated Current: 4A; Wire Section: 16 to 30 (AWG) 1.31 to 0.05 (mm^2); Working Voltage: 300V (AC); Manufacturer Part Number: 691412320010M; Product Series: WR-TBL; ComponentLink1Description: Website Link; ComponentLink1URL: https://www.we-online.com; ComponentLink2Description: Datasheet Link; ComponentLink2URL: https://www.we-online.com/components/products/datasheet/691412320010M; Mount: Through Hole; Operating Temperature Min: -30degC; Operating Temperature Max: 120degC; Packaging: Box; Application: Screwless; Number of Pins: 10; Number of Rows: 1; Orientation: 45deg; Lead Pitch: 3.81mm
footprint 691412320010M
pins: 1, 2, 3, 4, 5, 6, 7, 8, 9, 10

## 691412320011
designator J?  (value not drawn)
WR-TBL Series 4123 45° Entry, THT, pitch 3.81mm, 11p; Manufacturer: Wurth Elektronik; Modularity: No; Rated Current: 4A; Wire Section: 16 to 30 (AWG) 1.31 to 0.05 (mm^2); Working Voltage: 300V (AC); Manufacturer Part Number: 691412320011; Product Series: WR-TBL; ComponentLink1Description: Website Link; ComponentLink1URL: https://www.we-online.com; ComponentLink2Description: Datasheet Link; ComponentLink2URL: https://www.we-online.com/components/products/datasheet/691412320011; Mount: Through Hole; Operating Temperature Min: -30degC; Operating Temperature Max: 120degC; Packaging: Box; Application: Screwless; Number of Pins: 11; Number of Rows: 1; Orientation: 45deg; Lead Pitch: 3.81mm
footprint 691412320011
pins: 1, 2, 3, 4, 5, 6, 7, 8, 9, 10, 11

## 691412320011M
designator J?  (value not drawn)
WR-TBL Series 4123M 45° Entry, THT, pitch 3.81mm, 11p; Manufacturer: Wurth Elektronik; Modularity: No; Rated Current: 4A; Wire Section: 16 to 30 (AWG) 1.31 to 0.05 (mm^2); Working Voltage: 300V (AC); Manufacturer Part Number: 691412320011M; Product Series: WR-TBL; ComponentLink1Description: Website Link; ComponentLink1URL: https://www.we-online.com; ComponentLink2Description: Datasheet Link; ComponentLink2URL: https://www.we-online.com/components/products/datasheet/691412320011M; Mount: Through Hole; Operating Temperature Min: -30degC; Operating Temperature Max: 120degC; Packaging: Box; Application: Screwless; Number of Pins: 11; Number of Rows: 1; Orientation: 45deg; Lead Pitch: 3.81mm
footprint 691412320011M
pins: 1, 2, 3, 4, 5, 6, 7, 8, 9, 10, 11

## 691412320012
designator J?  (value not drawn)
WR-TBL Series 4123 45° Entry, THT, pitch 3.81mm, 12p; Manufacturer: Wurth Elektronik; Modularity: No; Rated Current: 4A; Wire Section: 16 to 30 (AWG) 1.31 to 0.05 (mm^2); Working Voltage: 300V (AC); Manufacturer Part Number: 691412320012; Product Series: WR-TBL; ComponentLink1Description: Website Link; ComponentLink1URL: https://www.we-online.com; ComponentLink2Description: Datasheet Link; ComponentLink2URL: https://www.we-online.com/components/products/datasheet/691412320012; Mount: Through Hole; Operating Temperature Min: -30degC; Operating Temperature Max: 120degC; Packaging: Box; Application: Screwless; Number of Pins: 12; Number of Rows: 1; Orientation: 45deg; Lead Pitch: 3.81mm
footprint 691412320012
pins: 1, 2, 3, 4, 5, 6, 7, 8, 9, 10, 11, 12

## 691412320012M
designator J?  (value not drawn)
WR-TBL Series 4123M 45° Entry, THT, pitch 3.81mm, 12p; Manufacturer: Wurth Elektronik; Modularity: No; Rated Current: 4A; Wire Section: 16 to 30 (AWG) 1.31 to 0.05 (mm^2); Working Voltage: 300V (AC); Manufacturer Part Number: 691412320012M; Product Series: WR-TBL; ComponentLink1Description: Website Link; ComponentLink1URL: https://www.we-online.com; ComponentLink2Description: Datasheet Link; ComponentLink2URL: https://www.we-online.com/components/products/datasheet/691412320012M; Mount: Through Hole; Operating Temperature Min: -30degC; Operating Temperature Max: 120degC; Packaging: Box; Application: Screwless; Number of Pins: 12; Number of Rows: 1; Orientation: 45deg; Lead Pitch: 3.81mm
footprint 691412320012M
pins: 1, 2, 3, 4, 5, 6, 7, 8, 9, 10, 11, 12

## 691412420002
designator J?  (value not drawn)
WR-TBL Series 4124 45° Entry, THT, pitch 7.62mm, 02p; Manufacturer: Wurth Elektronik; Modularity: No; Rated Current: 4A; Wire Section: 16 to 30 (AWG) 1.31 to 0.05 (mm^2); Working Voltage: 300V (AC); Manufacturer Part Number: 691412420002; Product Series: WR-TBL; ComponentLink1Description: Website Link; ComponentLink1URL: https://www.we-online.com; ComponentLink2Description: Datasheet Link; ComponentLink2URL: https://www.we-online.com/components/products/datasheet/691412420002; Mount: Through Hole; Operating Temperature Min: -30degC; Operating Temperature Max: 120degC; Packaging: Box; Application: Screwless; Number of Pins: 2; Number of Rows: 1; Orientation: 45deg; Lead Pitch: 7.62mm
footprint 691412420002
pins: 1, 2

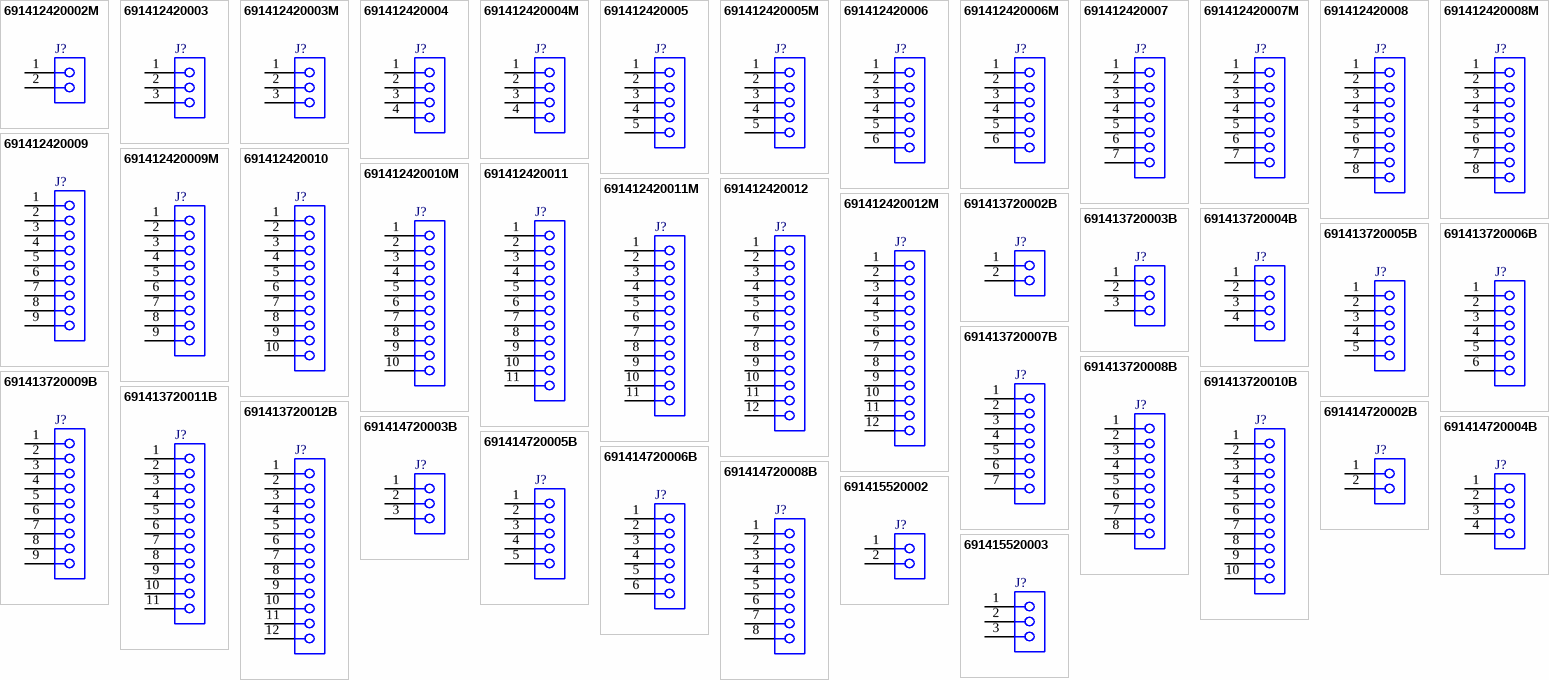
[diagram p6: symbols 691412420002M to 691415520003]

## 691412420002M
designator J?  (value not drawn)
WR-TBL Series 4124M 45° Entry, THT, pitch 7.62mm, 02p; Manufacturer: Wurth Elektronik; Modularity: No; Rated Current: 4A; Wire Section: 16 to 30 (AWG) 1.31 to 0.05 (mm^2); Working Voltage: 300V (AC); Manufacturer Part Number: 691412420002M; Product Series: WR-TBL; ComponentLink1Description: Website Link; ComponentLink1URL: https://www.we-online.com; ComponentLink2Description: Datasheet Link; ComponentLink2URL: https://www.we-online.com/components/products/datasheet/691412420002M; Mount: Through Hole; Operating Temperature Min: -30degC; Operating Temperature Max: 120degC; Packaging: Box; Application: Screwless; Number of Pins: 2; Number of Rows: 1; Orientation: 45deg; Lead Pitch: 7.62mm
footprint 691412420002M
pins: 1, 2

## 691412420003
designator J?  (value not drawn)
WR-TBL Series 4124 45° Entry, THT, pitch 7.62mm, 03p; Manufacturer: Wurth Elektronik; Modularity: No; Rated Current: 4A; Wire Section: 16 to 30 (AWG) 1.31 to 0.05 (mm^2); Working Voltage: 300V (AC); Manufacturer Part Number: 691412420003; Product Series: WR-TBL; ComponentLink1Description: Website Link; ComponentLink1URL: https://www.we-online.com; ComponentLink2Description: Datasheet Link; ComponentLink2URL: https://www.we-online.com/components/products/datasheet/691412420003; Mount: Through Hole; Operating Temperature Min: -30degC; Operating Temperature Max: 120degC; Packaging: Box; Application: Screwless; Number of Pins: 3; Number of Rows: 1; Orientation: 45deg; Lead Pitch: 7.62mm
footprint 691412420003
pins: 1, 2, 3

## 691412420003M
designator J?  (value not drawn)
WR-TBL Series 4124M 45° Entry, THT, pitch 7.62mm, 03p; Manufacturer: Wurth Elektronik; Modularity: No; Rated Current: 4A; Wire Section: 16 to 30 (AWG) 1.31 to 0.05 (mm^2); Working Voltage: 300V (AC); Manufacturer Part Number: 691412420003M; Product Series: WR-TBL; ComponentLink1Description: Website Link; ComponentLink1URL: https://www.we-online.com; ComponentLink2Description: Datasheet Link; ComponentLink2URL: https://www.we-online.com/components/products/datasheet/691412420003M; Mount: Through Hole; Operating Temperature Min: -30degC; Operating Temperature Max: 120degC; Packaging: Box; Application: Screwless; Number of Pins: 3; Number of Rows: 1; Orientation: 45deg; Lead Pitch: 7.62mm
footprint 691412420003M
pins: 1, 2, 3

## 691412420004
designator J?  (value not drawn)
WR-TBL Series 4124 45° Entry, THT, pitch 7.62mm, 04p; Manufacturer: Wurth Elektronik; Modularity: No; Rated Current: 4A; Wire Section: 16 to 30 (AWG) 1.31 to 0.05 (mm^2); Working Voltage: 300V (AC); Manufacturer Part Number: 691412420004; Product Series: WR-TBL; ComponentLink1Description: Website Link; ComponentLink1URL: https://www.we-online.com; ComponentLink2Description: Datasheet Link; ComponentLink2URL: https://www.we-online.com/components/products/datasheet/691412420004; Mount: Through Hole; Operating Temperature Min: -30degC; Operating Temperature Max: 120degC; Packaging: Box; Application: Screwless; Number of Pins: 4; Number of Rows: 1; Orientation: 45deg; Lead Pitch: 7.62mm
footprint 691412420004
pins: 1, 2, 3, 4

## 691412420004M
designator J?  (value not drawn)
WR-TBL Series 4124M 45° Entry, THT, pitch 7.62mm, 04p; Manufacturer: Wurth Elektronik; Modularity: No; Rated Current: 4A; Wire Section: 16 to 30 (AWG) 1.31 to 0.05 (mm^2); Working Voltage: 300V (AC); Manufacturer Part Number: 691412420004M; Product Series: WR-TBL; ComponentLink1Description: Website Link; ComponentLink1URL: https://www.we-online.com; ComponentLink2Description: Datasheet Link; ComponentLink2URL: https://www.we-online.com/components/products/datasheet/691412420004M; Mount: Through Hole; Operating Temperature Min: -30degC; Operating Temperature Max: 120degC; Packaging: Box; Application: Screwless; Number of Pins: 4; Number of Rows: 1; Orientation: 45deg; Lead Pitch: 7.62mm
footprint 691412420004M
pins: 1, 2, 3, 4

## 691412420005
designator J?  (value not drawn)
WR-TBL Series 4124 45° Entry, THT, pitch 7.62mm, 05p; Manufacturer: Wurth Elektronik; Modularity: No; Rated Current: 4A; Wire Section: 16 to 30 (AWG) 1.31 to 0.05 (mm^2); Working Voltage: 300V (AC); Manufacturer Part Number: 691412420005; Product Series: WR-TBL; ComponentLink1Description: Website Link; ComponentLink1URL: https://www.we-online.com; ComponentLink2Description: Datasheet Link; ComponentLink2URL: https://www.we-online.com/components/products/datasheet/691412420005; Mount: Through Hole; Operating Temperature Min: -30degC; Operating Temperature Max: 120degC; Packaging: Box; Application: Screwless; Number of Pins: 5; Number of Rows: 1; Orientation: 45deg; Lead Pitch: 7.62mm
footprint 691412420005
pins: 1, 2, 3, 4, 5